# Altium schematic symbol library Oscillator - XO.SchLib: 18 symbols
Pins are listed as number, name and electrical type; pins without a type are passive.

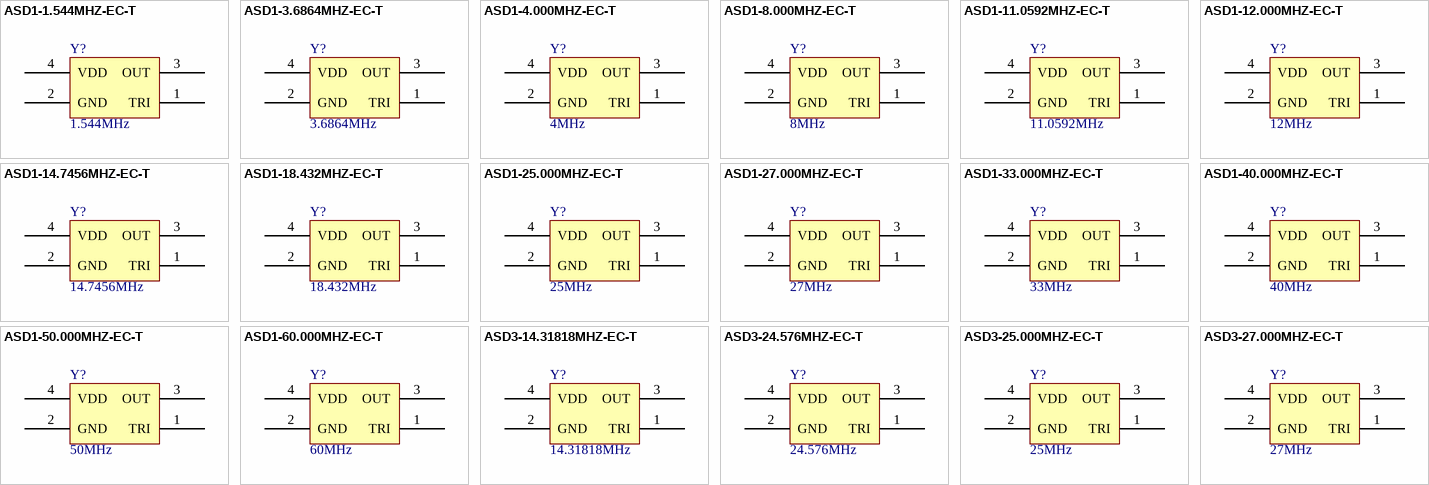
[diagram p0: symbols ASD1-1.544MHZ-EC-T to ASD3-27.000MHZ-EC-T]

## ASD1-1.544MHZ-EC-T
designator Y?, comment 1.544MHz
OSC XO 1.544MHZ CMOS SMD; Part Number: ASD1-1.544MHZ-EC-T; Manufacturer: Abracon LLC; Frequency Stability: 50ppm; PartId: 8935; Supplier 1: Digi-Key; Supplier Part Number 1: 535-9579-2-ND; ComponentLink1Description: Datasheet; ComponentLink1URL: http://www.abracon.com/Oscillators/ASDseries.pdf; ComponentLink2Description: Digi-Key Listing; ComponentLink2URL: https://www.digikey.com/product-detail/en/ASD1-1.544MHZ-EC-T/535-9579-2-ND/1236896; Price: 1.74; Type: XO (Standard); Device Package: 4-SMD, No Lead (DFN, LCC); Series: ASD; Frequency: 1.544MHz
footprint ABRACON ASD
pins: 1 TRI, 2 GND, 3 OUT, 4 VDD

## ASD1-3.6864MHZ-EC-T
designator Y?, comment 3.6864MHz
OSC XO 3.6864MHZ CMOS SMD; Part Number: ASD1-3.6864MHZ-EC-T; Manufacturer: Abracon LLC; Frequency Stability: 50ppm; PartId: 8937; Supplier 1: Digi-Key; Supplier Part Number 1: 535-9580-2-ND; ComponentLink1Description: Datasheet; ComponentLink1URL: http://www.abracon.com/Oscillators/ASDseries.pdf; ComponentLink2Description: Digi-Key Listing; ComponentLink2URL: https://www.digikey.com/product-detail/en/ASD1-3.6864MHZ-EC-T/535-9580-2-ND/1236897; Price: 1.74; Type: XO (Standard); Device Package: 4-SMD, No Lead (DFN, LCC); Series: ASD; Frequency: 3.6864MHz
footprint ABRACON ASD
pins: 1 TRI, 2 GND, 3 OUT, 4 VDD

## ASD1-4.000MHZ-EC-T
designator Y?, comment 4MHz
OSC XO 4.000MHZ CMOS SMD; Part Number: ASD1-4.000MHZ-EC-T; Manufacturer: Abracon LLC; Frequency Stability: 50ppm; PartId: 8932; Supplier 1: Digi-Key; Supplier Part Number 1: 535-9581-2-ND; ComponentLink1Description: Datasheet; ComponentLink1URL: http://www.abracon.com/Oscillators/ASDseries.pdf; ComponentLink2Description: Digi-Key Listing; ComponentLink2URL: https://www.digikey.com/product-detail/en/ASD1-4.000MHZ-EC-T/535-9581-2-ND/1236898; Price: 1.74; Type: XO (Standard); Device Package: 4-SMD, No Lead (DFN, LCC); Series: ASD; Frequency: 4MHz
footprint ABRACON ASD
pins: 1 TRI, 2 GND, 3 OUT, 4 VDD

## ASD1-8.000MHZ-EC-T
designator Y?, comment 8MHz
OSC XO 8.000MHZ CMOS SMD; Part Number: ASD1-8.000MHZ-EC-T; Manufacturer: Abracon LLC; Frequency Stability: 50ppm; PartId: 8939; Supplier 1: Digi-Key; Supplier Part Number 1: 535-9583-2-ND; ComponentLink1Description: Datasheet; ComponentLink1URL: http://www.abracon.com/Oscillators/ASDseries.pdf; ComponentLink2Description: Digi-Key Listing; ComponentLink2URL: https://www.digikey.com/product-detail/en/ASD1-8.000MHZ-EC-T/535-9583-2-ND/1236900; Price: 1.74; Type: XO (Standard); Device Package: 4-SMD, No Lead (DFN, LCC); Series: ASD; Frequency: 8MHz
footprint ABRACON ASD
pins: 1 TRI, 2 GND, 3 OUT, 4 VDD

## ASD1-11.0592MHZ-EC-T
designator Y?, comment 11.0592MHz
OSC XO 11.0592MHZ CMOS SMD; Part Number: ASD1-11.0592MHZ-EC-T; Manufacturer: Abracon LLC; Frequency Stability: 50ppm; PartId: 8942; Supplier 1: Digi-Key; Supplier Part Number 1: 535-9585-2-ND; ComponentLink1Description: Datasheet; ComponentLink1URL: http://www.abracon.com/Oscillators/ASDseries.pdf; ComponentLink2Description: Digi-Key Listing; ComponentLink2URL: https://www.digikey.com/product-detail/en/ASD1-11.0592MHZ-EC-T/535-9585-2-ND/1236902; Price: 1.74; Type: XO (Standard); Device Package: 4-SMD, No Lead (DFN, LCC); Series: ASD; Frequency: 11.0592MHz
footprint ABRACON ASD
pins: 1 TRI, 2 GND, 3 OUT, 4 VDD

## ASD1-12.000MHZ-EC-T
designator Y?, comment 12MHz
OSC XO 12.000MHZ CMOS SMD; Part Number: ASD1-12.000MHZ-EC-T; Manufacturer: Abracon LLC; Frequency Stability: 50ppm; PartId: 8933; Supplier 1: Digi-Key; Supplier Part Number 1: 535-9586-2-ND; ComponentLink1Description: Datasheet; ComponentLink1URL: http://www.abracon.com/Oscillators/ASDseries.pdf; ComponentLink2Description: Digi-Key Listing; ComponentLink2URL: https://www.digikey.com/product-detail/en/ASD1-12.000MHZ-EC-T/535-9586-2-ND/1236903; Price: 1.74; Type: XO (Standard); Device Package: 4-SMD, No Lead (DFN, LCC); Series: ASD; Frequency: 12MHz
footprint ABRACON ASD
pins: 1 TRI, 2 GND, 3 OUT, 4 VDD

## ASD1-14.7456MHZ-EC-T
designator Y?, comment 14.7456MHz
OSC XO 14.7456MHZ CMOS SMD; Part Number: ASD1-14.7456MHZ-EC-T; Manufacturer: Abracon LLC; Frequency Stability: 50ppm; PartId: 8943; Supplier 1: Digi-Key; Supplier Part Number 1: 535-9588-2-ND; ComponentLink1Description: Datasheet; ComponentLink1URL: http://www.abracon.com/Oscillators/ASDseries.pdf; ComponentLink2Description: Digi-Key Listing; ComponentLink2URL: https://www.digikey.com/product-detail/en/ASD1-14.7456MHZ-EC-T/535-9588-2-ND/1236905; Price: 1.74; Type: XO (Standard); Device Package: 4-SMD, No Lead (DFN, LCC); Series: ASD; Frequency: 14.7456MHz
footprint ABRACON ASD
pins: 1 TRI, 2 GND, 3 OUT, 4 VDD

## ASD1-18.432MHZ-EC-T
designator Y?, comment 18.432MHz
OSC XO 18.432MHZ CMOS SMD; Part Number: ASD1-18.432MHZ-EC-T; Manufacturer: Abracon LLC; Frequency Stability: 50ppm; PartId: 8944; Supplier 1: Digi-Key; Supplier Part Number 1: 535-9589-2-ND; ComponentLink1Description: Datasheet; ComponentLink1URL: http://www.abracon.com/Oscillators/ASDseries.pdf; ComponentLink2Description: Digi-Key Listing; ComponentLink2URL: https://www.digikey.com/product-detail/en/ASD1-18.432MHZ-EC-T/535-9589-2-ND/1236906; Price: 1.74; Type: XO (Standard); Device Package: 4-SMD, No Lead (DFN, LCC); Series: ASD; Frequency: 18.432MHz
footprint ABRACON ASD
pins: 1 TRI, 2 GND, 3 OUT, 4 VDD

## ASD1-25.000MHZ-EC-T
designator Y?, comment 25MHz
OSC XO 25.000MHZ CMOS SMD; Part Number: ASD1-25.000MHZ-EC-T; Manufacturer: Abracon LLC; Frequency Stability: 50ppm; PartId: 8941; Supplier 1: Digi-Key; Supplier Part Number 1: 535-9593-2-ND; ComponentLink1Description: Datasheet; ComponentLink1URL: http://www.abracon.com/Oscillators/ASDseries.pdf; ComponentLink2Description: Digi-Key Listing; ComponentLink2URL: https://www.digikey.com/product-detail/en/ASD1-25.000MHZ-EC-T/535-9593-2-ND/1236910; Price: 1.74; Type: XO (Standard); Device Package: 4-SMD, No Lead (DFN, LCC); Series: ASD; Frequency: 25MHz
footprint ABRACON ASD
pins: 1 TRI, 2 GND, 3 OUT, 4 VDD

## ASD1-27.000MHZ-EC-T
designator Y?, comment 27MHz
OSC XO 27.000MHZ CMOS SMD; Part Number: ASD1-27.000MHZ-EC-T; Manufacturer: Abracon LLC; Frequency Stability: 50ppm; PartId: 8938; Supplier 1: Digi-Key; Supplier Part Number 1: 535-9594-2-ND; ComponentLink1Description: Datasheet; ComponentLink1URL: http://www.abracon.com/Oscillators/ASDseries.pdf; ComponentLink2Description: Digi-Key Listing; ComponentLink2URL: https://www.digikey.com/product-detail/en/ASD1-27.000MHZ-EC-T/535-9594-2-ND/1236911; Price: 1.74; Type: XO (Standard); Device Package: 4-SMD, No Lead (DFN, LCC); Series: ASD; Frequency: 27MHz
footprint ABRACON ASD
pins: 1 TRI, 2 GND, 3 OUT, 4 VDD

## ASD1-33.000MHZ-EC-T
designator Y?, comment 33MHz
OSC XO 33.000MHZ CMOS SMD; Part Number: ASD1-33.000MHZ-EC-T; Manufacturer: Abracon LLC; Frequency Stability: 50ppm; PartId: 8940; Supplier 1: Digi-Key; Supplier Part Number 1: 535-9597-2-ND; ComponentLink1Description: Datasheet; ComponentLink1URL: http://www.abracon.com/Oscillators/ASDseries.pdf; ComponentLink2Description: Digi-Key Listing; ComponentLink2URL: https://www.digikey.com/product-detail/en/ASD1-33.000MHZ-EC-T/535-9597-2-ND/1236914; Price: 1.74; Type: XO (Standard); Device Package: 4-SMD, No Lead (DFN, LCC); Series: ASD; Frequency: 33MHz
footprint ABRACON ASD
pins: 1 TRI, 2 GND, 3 OUT, 4 VDD

## ASD1-40.000MHZ-EC-T
designator Y?, comment 40MHz
OSC XO 40.000MHZ CMOS SMD; Part Number: ASD1-40.000MHZ-EC-T; Manufacturer: Abracon LLC; Frequency Stability: 50ppm; PartId: 8945; Supplier 1: Digi-Key; Supplier Part Number 1: 535-9599-2-ND; ComponentLink1Description: Datasheet; ComponentLink1URL: http://www.abracon.com/Oscillators/ASDseries.pdf; ComponentLink2Description: Digi-Key Listing; ComponentLink2URL: https://www.digikey.com/product-detail/en/ASD1-40.000MHZ-EC-T/535-9599-2-ND/1236916; Price: 1.74; Type: XO (Standard); Device Package: 4-SMD, No Lead (DFN, LCC); Series: ASD; Frequency: 40MHz
footprint ABRACON ASD
pins: 1 TRI, 2 GND, 3 OUT, 4 VDD

## ASD1-50.000MHZ-EC-T
designator Y?, comment 50MHz
OSC XO 50.000MHZ CMOS SMD; Part Number: ASD1-50.000MHZ-EC-T; Manufacturer: Abracon LLC; Frequency Stability: 50ppm; PartId: 8930; Supplier 1: Digi-Key; Supplier Part Number 1: 535-9601-2-ND; ComponentLink1Description: Datasheet; ComponentLink1URL: http://www.abracon.com/Oscillators/ASDseries.pdf; ComponentLink2Description: Digi-Key Listing; ComponentLink2URL: https://www.digikey.com/product-detail/en/ASD1-50.000MHZ-EC-T/535-9601-2-ND/1236918; Price: 1.74; Type: XO (Standard); Device Package: 4-SMD, No Lead (DFN, LCC); Series: ASD; Frequency: 50MHz
footprint ABRACON ASD
pins: 1 TRI, 2 GND, 3 OUT, 4 VDD

## ASD1-60.000MHZ-EC-T
designator Y?, comment 60MHz
OSC XO 60.000MHZ CMOS SMD; Part Number: ASD1-60.000MHZ-EC-T; Manufacturer: Abracon LLC; Frequency Stability: 50ppm; PartId: 8946; Supplier 1: Digi-Key; Supplier Part Number 1: 535-9602-2-ND; ComponentLink1Description: Datasheet; ComponentLink1URL: http://www.abracon.com/Oscillators/ASDseries.pdf; ComponentLink2Description: Digi-Key Listing; ComponentLink2URL: https://www.digikey.com/product-detail/en/ASD1-60.000MHZ-EC-T/535-9602-2-ND/1236919; Price: 1.74; Type: XO (Standard); Device Package: 4-SMD, No Lead (DFN, LCC); Series: ASD; Frequency: 60MHz
footprint ABRACON ASD
pins: 1 TRI, 2 GND, 3 OUT, 4 VDD

## ASD3-14.31818MHZ-EC-T
designator Y?, comment 14.31818MHz
OSC XO 14.31818MHZ CMOS SMD; Part Number: ASD3-14.31818MHZ-EC-T; Manufacturer: Abracon LLC; Frequency Stability: 50ppm; PartId: 8936; Supplier 1: Digi-Key; Supplier Part Number 1: 535-9603-2-ND; ComponentLink1Description: Datasheet; ComponentLink1URL: http://www.abracon.com/Oscillators/ASDseries.pdf; ComponentLink2Description: Digi-Key Listing; ComponentLink2URL: https://www.digikey.com/product-detail/en/ASD3-14.31818MHZ-EC-T/535-9603-2-ND/1236920; Price: 1.74; Type: XO (Standard); Device Package: 4-SMD, No Lead (DFN, LCC); Series: ASD; Frequency: 14.31818MHz
footprint ABRACON ASD
pins: 1 TRI, 2 GND, 3 OUT, 4 VDD

## ASD3-24.576MHZ-EC-T
designator Y?, comment 24.576MHz
OSC XO 24.576MHZ CMOS SMD; Part Number: ASD3-24.576MHZ-EC-T; Manufacturer: Abracon LLC; Frequency Stability: 50ppm; PartId: 8929; Supplier 1: Digi-Key; Supplier Part Number 1: 535-9606-2-ND; ComponentLink1Description: Datasheet; ComponentLink1URL: http://www.abracon.com/Oscillators/ASDseries.pdf; ComponentLink2Description: Digi-Key Listing; ComponentLink2URL: https://www.digikey.com/product-detail/en/ASD3-24.576MHZ-EC-T/535-9606-2-ND/1236923; Price: 1.74; Type: XO (Standard); Device Package: 4-SMD, No Lead (DFN, LCC); Series: ASD; Frequency: 24.576MHz
footprint ABRACON ASD
pins: 1 TRI, 2 GND, 3 OUT, 4 VDD

## ASD3-25.000MHZ-EC-T
designator Y?, comment 25MHz
OSC XO 25.000MHZ CMOS SMD; Part Number: ASD3-25.000MHZ-EC-T; Manufacturer: Abracon LLC; Frequency Stability: 50ppm; PartId: 8931; Supplier 1: Digi-Key; Supplier Part Number 1: 535-9607-2-ND; ComponentLink1Description: Datasheet; ComponentLink1URL: http://www.abracon.com/Oscillators/ASDseries.pdf; ComponentLink2Description: Digi-Key Listing; ComponentLink2URL: https://www.digikey.com/product-detail/en/ASD3-25.000MHZ-EC-T/535-9607-2-ND/1236924; Price: 1.74; Type: XO (Standard); Device Package: 4-SMD, No Lead (DFN, LCC); Series: ASD; Frequency: 25MHz
footprint ABRACON ASD
pins: 1 TRI, 2 GND, 3 OUT, 4 VDD

## ASD3-27.000MHZ-EC-T
designator Y?, comment 27MHz
OSC XO 27.000MHZ CMOS SMD; Part Number: ASD3-27.000MHZ-EC-T; Manufacturer: Abracon LLC; Frequency Stability: 50ppm; PartId: 8934; Supplier 1: Digi-Key; Supplier Part Number 1: 535-9608-2-ND; ComponentLink1Description: Datasheet; ComponentLink1URL: http://www.abracon.com/Oscillators/ASDseries.pdf; ComponentLink2Description: Digi-Key Listing; ComponentLink2URL: https://www.digikey.com/product-detail/en/ASD3-27.000MHZ-EC-T/535-9608-2-ND/1236925; Price: 1.74; Type: XO (Standard); Device Package: 4-SMD, No Lead (DFN, LCC); Series: ASD; Frequency: 27MHz
footprint ABRACON ASD
pins: 1 TRI, 2 GND, 3 OUT, 4 VDD